# EAGLE library part 74X8T245 (library X893)
8-Bit Dual-Supply Bus Transceiver with Configurable Voltage Translation and Three-State Outputs http://www.ti.com/lit/gpn/sn74lvc8t245
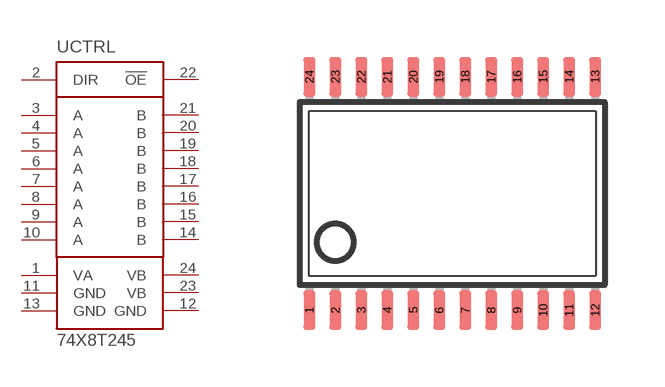
[diagram p133: symbol with the pads of TSSOP24; footprint TSSOP24]

Designator prefix -; gates PWR=74*8T245P G1=74*8T245 G2=74*8T245 G3=74*8T245 G4=74*8T245 G5=74*8T245 G6=74*8T245 G7=74*8T245 G8=74*8T245 CTRL=74*8T245C

## 74X8T245U  [TSSOP24]
1  PWR:VA  pwr
2  CTRL:DIR  in
3  G1:A
4  G2:A
5  G3:A
6  G4:A
7  G5:A
8  G6:A
9  G7:A
10  G8:A
11  PWR:GND  sup
12  PWR:GND  sup
13  PWR:GND  sup
14  G8:B
15  G7:B
16  G6:B
17  G5:B
18  G4:B
19  G3:B
20  G2:B
21  G1:B
22  CTRL:!OE  in
23  PWR:VB  pwr
24  PWR:VB  pwr

## Footprint TSSOP24 (pad centres in mm)
Thin Shrink Small Outline Plastic 24 MAX3223-MAX3243.pdf
smd 0.305 x 0.991: 1 -3.575,-2.918; 2 -2.925,-2.918; 3 -2.275,-2.918; 4 -1.625,-2.918; 5 -0.975,-2.918; 6 -0.325,-2.918; 7 0.325,-2.918; 8 0.975,-2.918; 9 1.625,-2.918; 10 2.275,-2.918; 11 2.925,-2.918; 12 3.575,-2.918; 13 3.575,2.918; 14 2.925,2.918; 15 2.275,2.918; 16 1.625,2.918; 17 0.975,2.918; 18 0.325,2.918; 19 -0.325,2.918; 20 -0.975,2.918; 21 -1.625,2.918; 22 -2.275,2.918; 23 -2.925,2.918; 24 -3.575,2.918